# Altium footprint library TSSOP-16.PcbLib: 4 footprints
Each footprint in its own frame and in the unit in brackets; x right, y up, seen from the top. Pads: shape width x height; smd on the part's side, far side on the other; paste and mask are expansions set on the pad; w line width, h text height; cw(c..) or ccw(c..) is an arc to the next point about the centre after c.
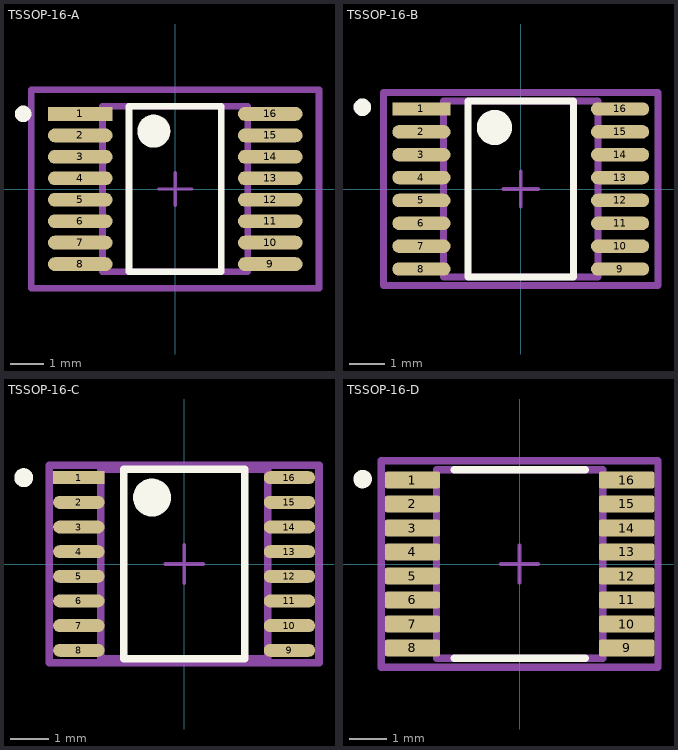
[diagram p0: the footprints below, top view; thin cyan lines are the x and y axes]

## TSSOP-16-A [mm] "TSSOP-16 pacadge"
pads (16):
  rect 1.955x0.421 smd paste+0 mask+0: 1(-2.875,2.275)
  rrect100% 1.955x0.421 smd paste+0 mask+0: 2(-2.875,1.625) 3(-2.875,0.975) 4(-2.875,0.325) 5(-2.875,-0.325) 6(-2.875,-0.975) 7(-2.875,-1.625) 8(-2.875,-2.275) 9(2.875,-2.275) 10(2.875,-1.625) 11(2.875,-0.975) 12(2.875,-0.325) 13(2.875,0.325) 14(2.875,0.975) 15(2.875,1.625) 16(2.875,2.275)
Top Overlay:
  circle w0.25: c-4.603,2.275 r0.125
  circle w0.5: c-0.648,1.75 r0.25
  lines w0.2: -1.398,-2.5 -1.398,2.5 1.398,2.5 1.398,-2.5 -1.398,-2.5
Top Assembly:
  lines w0.2: -4.353,-3 -4.353,3 4.353,3 4.353,-3 -4.353,-3
  text ".Designator" at 0,0.188 h1
Top 3D Body:
  lines w0.2: -2.2,-2.5 -2.2,2.5 2.2,2.5 2.2,-2.5 -2.2,-2.5
Top Courtyard:
  lines w0.2: -4.353,-3 -4.353,3 4.353,3 4.353,-3 -4.353,-3
Top Component Center:
  lines w0.1: -0.5,0 0.5,0 ; 0,-0.5 0,0.5
3D body "IC_TEXAS_INSTRUMENTS_SN74HC165PWR_eec.STEP": height 0.25, standoff 0, extent -4.353,-3 4.353,3

## TSSOP-16-B [mm]
pads (16):
  rect 1.655x0.381 smd paste+0 mask+0: 1(-2.825,2.275)
  rrect100% 1.655x0.381 smd paste+0 mask+0: 2(-2.825,1.625) 3(-2.825,0.975) 4(-2.825,0.325) 5(-2.825,-0.325) 6(-2.825,-0.975) 7(-2.825,-1.625) 8(-2.825,-2.275) 9(2.825,-2.275) 10(2.825,-1.625) 11(2.825,-0.975) 12(2.825,-0.325) 13(2.825,0.325) 14(2.825,0.975) 15(2.825,1.625) 16(2.825,2.275)
Top Overlay:
  circle w0.25: c-4.503,2.325 r0.125
  circle w0.5: c-0.748,1.75 r0.25
  lines w0.2: -1.498,-2.5 -1.498,2.5 1.498,2.5 1.498,-2.5 -1.498,-2.5
Top Assembly:
  lines w0.2: -3.903,-2.75 -3.903,2.75 3.903,2.75 3.903,-2.75 -3.903,-2.75
  text ".Designator" at 0,0.188 h1
Top 3D Body:
  lines w0.2: -2.2,-2.5 -2.2,2.5 2.2,2.5 2.2,-2.5 -2.2,-2.5
Top Courtyard:
  lines w0.2: -3.903,-2.75 -3.903,2.75 3.903,2.75 3.903,-2.75 -3.903,-2.75
Top Component Center:
  lines w0.1: -0.5,0 0.5,0 ; 0,-0.5 0,0.5
3D body "IC_TEXAS_INSTRUMENTS_SN74HC165PWR_eec.STEP": height 0.25, standoff 0, extent -3.903,-2.75 3.903,2.75

## TSSOP-16-C [mm]
pads (16):
  rect 1.355x0.341 smd paste+0 mask+0: 1(-2.775,2.275)
  rrect100% 1.355x0.341 smd paste+0 mask+0: 2(-2.775,1.625) 3(-2.775,0.975) 4(-2.775,0.325) 5(-2.775,-0.325) 6(-2.775,-0.975) 7(-2.775,-1.625) 8(-2.775,-2.275) 9(2.775,-2.275) 10(2.775,-1.625) 11(2.775,-0.975) 12(2.775,-0.325) 13(2.775,0.325) 14(2.775,0.975) 15(2.775,1.625) 16(2.775,2.275)
Top Overlay:
  circle w0.25: c-4.228,2.275 r0.125
  circle w0.5: c-0.848,1.75 r0.25
  lines w0.2: -1.598,-2.5 -1.598,2.5 1.598,2.5 1.598,-2.5 -1.598,-2.5
Top Assembly:
  lines w0.2: -3.553,-2.6 -3.553,2.6 3.553,2.6 3.553,-2.6 -3.553,-2.6
  text ".Designator" at 0,0.188 h1
Top 3D Body:
  lines w0.2: -2.2,-2.5 -2.2,2.5 2.2,2.5 2.2,-2.5 -2.2,-2.5
Top Courtyard:
  lines w0.2: -3.553,-2.6 -3.553,2.6 3.553,2.6 3.553,-2.6 -3.553,-2.6
Top Component Center:
  lines w0.1: -0.5,0 0.5,0 ; 0,-0.5 0,0.5
3D body "IC_TEXAS_INSTRUMENTS_SN74HC165PWR_eec.STEP": height 0.25, standoff 0, extent -3.553,-2.6 3.553,2.6

## TSSOP-16-D [mm]
pads (16):
  rrect22% 1.5x0.45 smd paste+0 mask+0: 1(-2.9,2.275) 2(-2.9,1.625) 3(-2.9,0.975) 4(-2.9,0.325) 5(-2.9,-0.325) 6(-2.9,-0.975) 7(-2.9,-1.625) 8(-2.9,-2.275) 9(2.9,-2.275) 10(2.9,-1.625) 11(2.9,-0.975) 12(2.9,-0.325) 13(2.9,0.325) 14(2.9,0.975) 15(2.9,1.625) 16(2.9,2.275)
Top Overlay:
  circle w0.25: c-4.25,2.3 r0.125
  lines w0.2: -1.775,-2.55 1.775,-2.55 ; -1.775,2.55 1.775,2.55
Top Assembly:
  lines w0.2: -3.75,-2.8 3.75,-2.8 3.75,2.8 -3.75,2.8 -3.75,-2.8
  text ".Designator" at 0,0.188 h1
Top 3D Body:
  lines w0.2: -2.25,-2.55 2.25,-2.55 2.25,2.55 -2.25,2.55 -2.25,-2.55
Top Courtyard:
  lines w0.2: -3.75,-2.8 3.75,-2.8 3.75,2.8 -3.75,2.8 -3.75,-2.8
Top Component Center:
  lines w0.1: -0.5,0 0.5,0 ; 0,-0.5 0,0.5
3D body "IC_TEXAS_INSTRUMENTS_SN74HC165PWR_eec.STEP": height 0.25, standoff 0, extent -3.75,-2.8 3.75,2.8